# Altium schematic symbol library Akeys 5224-8P8C.SchLib: 1 symbol
Pins are listed as number, name and electrical type; pins without a type are passive.

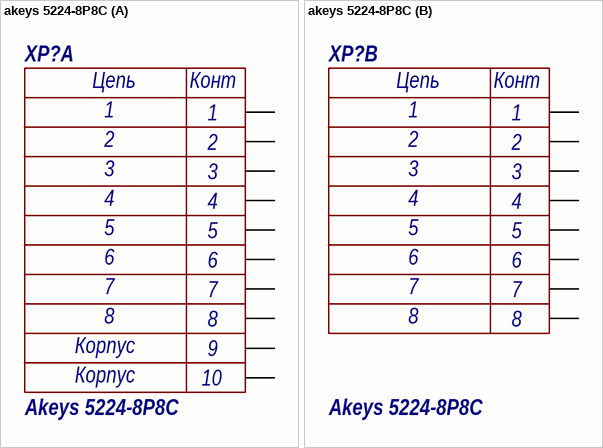
[diagram p0: symbol akeys 5224-8P8C]

## akeys 5224-8P8C
designator XP?, comment Akeys 5224-8P8C
part A pins: 1a 1, 2a 2, 3a 3, 4a 4, 5a 5, 6a 6, 7a 7, 8a 8, MH1, MH2
part B pins: 1b 1, 2b 2, 3b 3, 4b 4, 5b 5, 6b 6, 7b 7, 8b 8
part A text: Цепь; Конт; Корпус; 9; 10
part B text: Цепь; Конт